# EAGLE library part CONN_8 (library TT-Connectors)
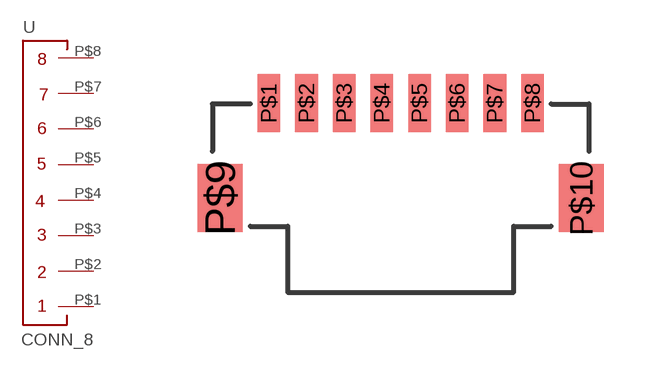
[diagram p0: symbol with the pads of MOLEX_PICO-CLASP-501331_8-PIN; footprint MOLEX_PICO-CLASP-501331_8-PIN]

Designator prefix -

## CONN_8  [MOLEX_PICO-CLASP-501331_8-PIN]
P$1  P$1  pas
P$2  P$2  pas
P$3  P$3  pas
P$4  P$4  pas
P$5  P$5  pas
P$6  P$6  pas
P$7  P$7  pas
P$8  P$8  pas

## Footprint MOLEX_PICO-CLASP-501331_8-PIN (pad centres in mm)
smd 0.6 x 1.55: P$1 -3.5,2.525; P$2 -2.5,2.525; P$3 -1.5,2.525; P$4 -0.5,2.525; P$5 0.5,2.525; P$6 1.5,2.525; P$7 2.5,2.525; P$8 3.5,2.525
smd 1.2 x 1.8: P$9 -4.8,0; P$10 4.8,0